# Altium footprint library Connector_PinHeader_1.27mm.PcbLib: 278 footprints (part 6 of 18)
Each footprint in its own frame and in the unit in brackets; x right, y up, seen from the top. Pads: shape width x height; smd on the part's side, far side on the other; paste and mask are expansions set on the pad; w line width, h text height; cw(c..) or ccw(c..) is an arc to the next point about the centre after c.
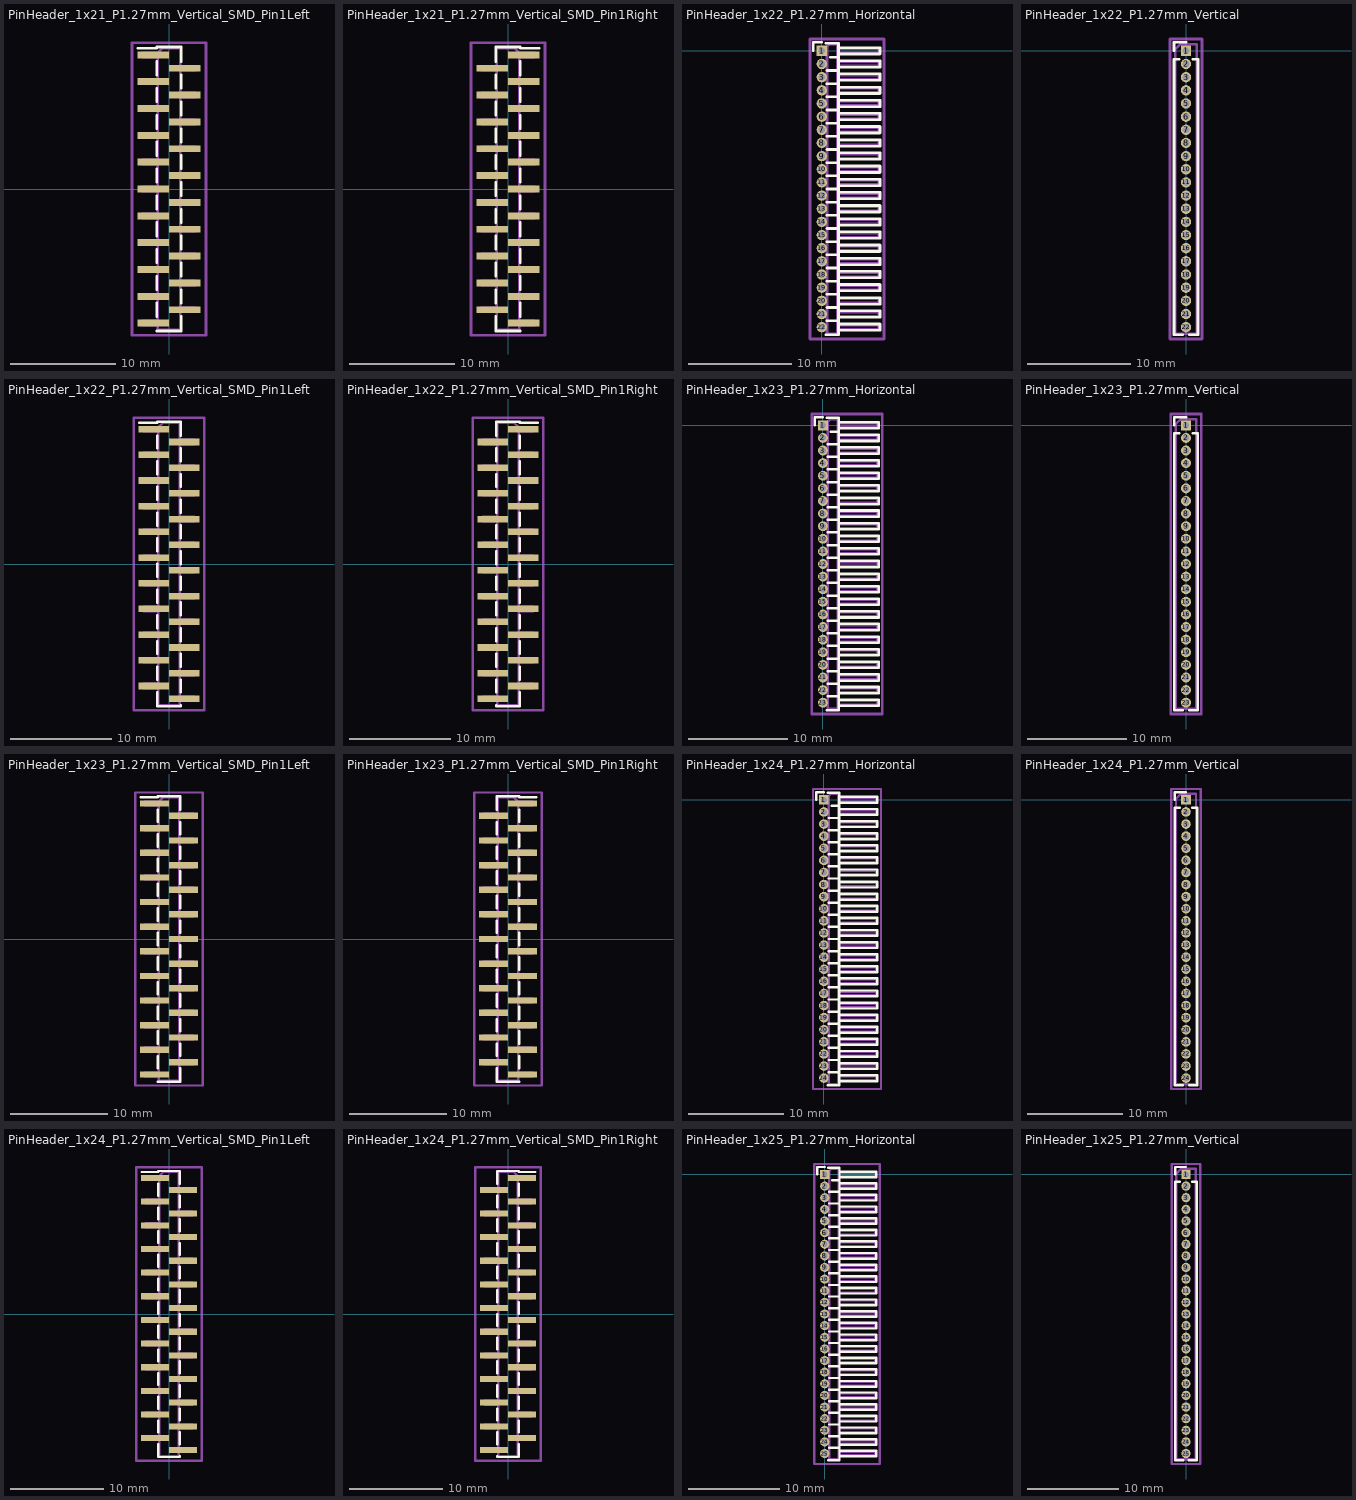
[diagram p5: the footprints below, top view; thin cyan lines are the x and y axes]

## PinHeader_1x21_P1.27mm_Vertical_SMD_Pin1Left [mm]
pads (21):
  rect 3x0.65 smd: 1(-1.5,12.7) 2(1.5,11.43) 3(-1.5,10.16) 4(1.5,8.89) 5(-1.5,7.62) 6(1.5,6.35) 7(-1.5,5.08) 8(1.5,3.81) 9(-1.5,2.54) 10(1.5,1.27) 11(-1.5,0) 12(1.5,-1.27) 13(-1.5,-2.54) 14(1.5,-3.81) 15(-1.5,-5.08) 16(1.5,-6.35) 17(-1.5,-7.62) 18(1.5,-8.89) 19(-1.5,-10.16) 20(1.5,-11.43) 21(-1.5,-12.7)
F.SilkS:
  lines w0.254: -2.94,13.335 -1.16,13.335 -1.16,13.445 1.16,13.445 ; -1.16,-13.445 1.16,-13.445 ; -1.16,-12.065 -1.16,-10.795 ; -1.16,-9.525 -1.16,-8.255 ; -1.16,-6.985 -1.16,-5.715 ; -1.16,-4.445 -1.16,-3.175 ; -1.16,-1.905 -1.16,-0.635 ; -1.16,0.635 -1.16,1.905 ; -1.16,3.175 -1.16,4.445 ; -1.16,5.715 -1.16,6.985 ; -1.16,8.255 -1.16,9.525 ; -1.16,10.795 -1.16,12.065 ; 1.16,-13.335 1.16,-13.445 ; 1.16,-12.065 1.16,-13.445 ; 1.16,-10.795 1.16,-9.525 ; 1.16,-8.255 1.16,-6.985 ; 1.16,-5.715 1.16,-4.445 ; 1.16,-3.175 1.16,-1.905 ; 1.16,-0.635 1.16,0.635 ; 1.16,1.905 1.16,3.175 ; 1.16,4.445 1.16,5.715 ; 1.16,6.985 1.16,8.255 ; 1.16,9.525 1.16,10.795 ; 1.16,12.065 1.16,13.335
Top Assembly:
  lines w0.254: -1.05,-12.9 -2.5,-12.9 -2.5,-12.5 -1.05,-12.5 ; -1.05,-10.36 -2.5,-10.36 -2.5,-9.96 -1.05,-9.96 ; -1.05,-7.82 -2.5,-7.82 -2.5,-7.42 -1.05,-7.42 ; -1.05,-5.28 -2.5,-5.28 -2.5,-4.88 -1.05,-4.88 ; -1.05,-2.74 -2.5,-2.74 -2.5,-2.34 -1.05,-2.34 ; -1.05,-0.2 -2.5,-0.2 -2.5,0.2 -1.05,0.2 ; -1.05,2.34 -2.5,2.34 -2.5,2.74 -1.05,2.74 ; -1.05,4.88 -2.5,4.88 -2.5,5.28 -1.05,5.28 ; -1.05,7.42 -2.5,7.42 -2.5,7.82 -1.05,7.82 ; -1.05,9.96 -2.5,9.96 -2.5,10.36 -1.05,10.36 ; -1.05,12.5 -2.5,12.5 -2.5,12.9 -1.05,12.9 ; 1.05,-11.63 2.5,-11.63 2.5,-11.23 1.05,-11.23 ; 1.05,-9.09 2.5,-9.09 2.5,-8.69 1.05,-8.69 ; 1.05,-6.55 2.5,-6.55 2.5,-6.15 1.05,-6.15 ; 1.05,-4.01 2.5,-4.01 2.5,-3.61 1.05,-3.61 ; 1.05,-1.47 2.5,-1.47 2.5,-1.07 1.05,-1.07 ; 1.05,1.07 2.5,1.07 2.5,1.47 1.05,1.47 ; 1.05,3.61 2.5,3.61 2.5,4.01 1.05,4.01 ; 1.05,6.15 2.5,6.15 2.5,6.55 1.05,6.55 ; 1.05,8.69 2.5,8.69 2.5,9.09 1.05,9.09 ; 1.05,11.23 2.5,11.23 2.5,11.63 1.05,11.63 ; -1.05,12.9 -1.05,-13.335 1.05,-13.335 1.05,13.335 -0.615,13.335 -1.05,12.9
  text "'.Designator'" at 0.84,-4.047 h1
Top Courtyard:
  lines w0.254: -3.5,-13.84 3.5,-13.84 3.5,13.84 -3.5,13.84 -3.5,-13.84
Top Designator:
  text ".Designator" at -7.618,-0.508 h1.52

## PinHeader_1x21_P1.27mm_Vertical_SMD_Pin1Right [mm]
pads (21):
  rect 3x0.65 smd: 1(1.5,12.7) 2(-1.5,11.43) 3(1.5,10.16) 4(-1.5,8.89) 5(1.5,7.62) 6(-1.5,6.35) 7(1.5,5.08) 8(-1.5,3.81) 9(1.5,2.54) 10(-1.5,1.27) 11(1.5,0) 12(-1.5,-1.27) 13(1.5,-2.54) 14(-1.5,-3.81) 15(1.5,-5.08) 16(-1.5,-6.35) 17(1.5,-7.62) 18(-1.5,-8.89) 19(1.5,-10.16) 20(-1.5,-11.43) 21(1.5,-12.7)
F.SilkS:
  lines w0.254: -1.16,-13.335 -1.16,-13.445 ; -1.16,-12.065 -1.16,-13.445 ; -1.16,-10.795 -1.16,-9.525 ; -1.16,-8.255 -1.16,-6.985 ; -1.16,-5.715 -1.16,-4.445 ; -1.16,-3.175 -1.16,-1.905 ; -1.16,-0.635 -1.16,0.635 ; -1.16,1.905 -1.16,3.175 ; -1.16,4.445 -1.16,5.715 ; -1.16,6.985 -1.16,8.255 ; -1.16,9.525 -1.16,10.795 ; -1.16,13.445 1.16,13.445 1.16,13.335 2.94,13.335 ; 1.16,-13.445 -1.16,-13.445 ; 1.16,-12.065 1.16,-10.795 ; 1.16,-9.525 1.16,-8.255 ; 1.16,-6.985 1.16,-5.715 ; 1.16,-4.445 1.16,-3.175 ; 1.16,-1.905 1.16,-0.635 ; 1.16,0.635 1.16,1.905 ; 1.16,3.175 1.16,4.445 ; 1.16,5.715 1.16,6.985 ; 1.16,8.255 1.16,9.525 ; 1.16,10.795 1.16,12.065 ; -1.16,12.065 -1.16,13.335 -1.16,12.065
Top Assembly:
  lines w0.254: -1.05,-11.63 -2.5,-11.63 -2.5,-11.23 -1.05,-11.23 ; -1.05,-9.09 -2.5,-9.09 -2.5,-8.69 -1.05,-8.69 ; -1.05,-6.55 -2.5,-6.55 -2.5,-6.15 -1.05,-6.15 ; -1.05,-4.01 -2.5,-4.01 -2.5,-3.61 -1.05,-3.61 ; -1.05,-1.47 -2.5,-1.47 -2.5,-1.07 -1.05,-1.07 ; -1.05,1.07 -2.5,1.07 -2.5,1.47 -1.05,1.47 ; -1.05,3.61 -2.5,3.61 -2.5,4.01 -1.05,4.01 ; -1.05,6.15 -2.5,6.15 -2.5,6.55 -1.05,6.55 ; -1.05,8.69 -2.5,8.69 -2.5,9.09 -1.05,9.09 ; -1.05,11.23 -2.5,11.23 -2.5,11.63 -1.05,11.63 ; 1.05,-12.9 2.5,-12.9 2.5,-12.5 1.05,-12.5 ; 1.05,-10.36 2.5,-10.36 2.5,-9.96 1.05,-9.96 ; 1.05,-7.82 2.5,-7.82 2.5,-7.42 1.05,-7.42 ; 1.05,-5.28 2.5,-5.28 2.5,-4.88 1.05,-4.88 ; 1.05,-2.74 2.5,-2.74 2.5,-2.34 1.05,-2.34 ; 1.05,-0.2 2.5,-0.2 2.5,0.2 1.05,0.2 ; 1.05,2.34 2.5,2.34 2.5,2.74 1.05,2.74 ; 1.05,4.88 2.5,4.88 2.5,5.28 1.05,5.28 ; 1.05,7.42 2.5,7.42 2.5,7.82 1.05,7.82 ; 1.05,9.96 2.5,9.96 2.5,10.36 1.05,10.36 ; 1.05,12.5 2.5,12.5 2.5,12.9 1.05,12.9 ; 1.05,12.9 1.05,-13.335 -1.05,-13.335 -1.05,13.335 0.615,13.335 1.05,12.9
  text "'.Designator'" at 0.84,-4.047 h1
Top Courtyard:
  lines w0.254: -3.5,-13.84 3.5,-13.84 3.5,13.84 -3.5,13.84 -3.5,-13.84
Top Designator:
  text ".Designator" at -7.618,-0.508 h1.52

## PinHeader_1x22_P1.27mm_Horizontal [mm]
pads (22):
  rect 1x1 hole 0.65: 1(0,0)
  round 1 hole 0.65: 2(0,-1.27) 3(0,-2.54) 4(0,-3.81) 5(0,-5.08) 6(0,-6.35) 7(0,-7.62) 8(0,-8.89) 9(0,-10.16) 10(0,-11.43) 11(0,-12.7) 12(0,-13.97) 13(0,-15.24) 14(0,-16.51) 15(0,-17.78) 16(0,-19.05) 17(0,-20.32) 18(0,-21.59) 19(0,-22.86) 20(0,-24.13) 21(0,-25.4) 22(0,-26.67)
F.SilkS:
  lines w0.254: -0.81,0 -0.81,0.81 0,0.81 ; 0.39,-27.415 1.61,-27.415 1.61,0.745 0.39,0.745 ; 0.503,-26.035 1.61,-26.035 ; 0.503,-24.765 1.61,-24.765 ; 0.503,-23.495 1.61,-23.495 ; 0.503,-22.225 1.61,-22.225 ; 0.503,-20.955 1.61,-20.955 ; 0.503,-19.685 1.61,-19.685 ; 0.503,-18.415 1.61,-18.415 ; 0.503,-17.145 1.61,-17.145 ; 0.503,-15.875 1.61,-15.875 ; 0.503,-14.605 1.61,-14.605 ; 0.503,-13.335 1.61,-13.335 ; 0.503,-12.065 1.61,-12.065 ; 0.503,-10.795 1.61,-10.795 ; 0.503,-9.525 1.61,-9.525 ; 0.503,-8.255 1.61,-8.255 ; 0.503,-6.985 1.61,-6.985 ; 0.503,-5.715 1.61,-5.715 ; 0.503,-4.445 1.61,-4.445 ; 0.503,-3.175 1.61,-3.175 ; 0.503,-1.905 1.61,-1.905 ; 0.81,-0.635 1.61,-0.635 ; 1.61,-26.98 5.61,-26.98 5.61,-26.36 1.61,-26.36 ; 1.61,-25.71 5.61,-25.71 5.61,-25.09 1.61,-25.09 ; 1.61,-24.44 5.61,-24.44 5.61,-23.82 1.61,-23.82 ; 1.61,-23.17 5.61,-23.17 5.61,-22.55 1.61,-22.55 ; 1.61,-21.9 5.61,-21.9 5.61,-21.28 1.61,-21.28 ; 1.61,-20.63 5.61,-20.63 5.61,-20.01 1.61,-20.01 ; 1.61,-19.36 5.61,-19.36 5.61,-18.74 1.61,-18.74 ; 1.61,-18.09 5.61,-18.09 5.61,-17.47 1.61,-17.47 ; 1.61,-16.82 5.61,-16.82 5.61,-16.2 1.61,-16.2 ; 1.61,-15.55 5.61,-15.55 5.61,-14.93 1.61,-14.93 ; 1.61,-14.28 5.61,-14.28 5.61,-13.66 1.61,-13.66 ; 1.61,-13.01 5.61,-13.01 5.61,-12.39 1.61,-12.39 ; 1.61,-11.74 5.61,-11.74 5.61,-11.12 1.61,-11.12 ; 1.61,-10.47 5.61,-10.47 5.61,-9.85 1.61,-9.85 ; 1.61,-9.2 5.61,-9.2 5.61,-8.58 1.61,-8.58 ; 1.61,-7.93 5.61,-7.93 5.61,-7.31 1.61,-7.31 ; 1.61,-6.66 5.61,-6.66 5.61,-6.04 1.61,-6.04 ; 1.61,-5.39 5.61,-5.39 5.61,-4.77 1.61,-4.77 ; 1.61,-4.12 5.61,-4.12 5.61,-3.5 1.61,-3.5 ; 1.61,-2.85 5.61,-2.85 5.61,-2.23 1.61,-2.23 ; 1.61,-1.58 5.61,-1.58 5.61,-0.96 1.61,-0.96 ; 1.61,-0.31 5.61,-0.31 5.61,0.31 1.61,0.31 1.61,-0.31
Top Assembly:
  lines w0.254: 0.5,-26.87 -0.2,-26.87 -0.2,-26.47 0.5,-26.47 ; 0.5,-25.6 -0.2,-25.6 -0.2,-25.2 0.5,-25.2 ; 0.5,-24.33 -0.2,-24.33 -0.2,-23.93 0.5,-23.93 ; 0.5,-23.06 -0.2,-23.06 -0.2,-22.66 0.5,-22.66 ; 0.5,-21.79 -0.2,-21.79 -0.2,-21.39 0.5,-21.39 ; 0.5,-20.52 -0.2,-20.52 -0.2,-20.12 0.5,-20.12 ; 0.5,-19.25 -0.2,-19.25 -0.2,-18.85 0.5,-18.85 ; 0.5,-17.98 -0.2,-17.98 -0.2,-17.58 0.5,-17.58 ; 0.5,-16.71 -0.2,-16.71 -0.2,-16.31 0.5,-16.31 ; 0.5,-15.44 -0.2,-15.44 -0.2,-15.04 0.5,-15.04 ; 0.5,-14.17 -0.2,-14.17 -0.2,-13.77 0.5,-13.77 ; 0.5,-12.9 -0.2,-12.9 -0.2,-12.5 0.5,-12.5 ; 0.5,-11.63 -0.2,-11.63 -0.2,-11.23 0.5,-11.23 ; 0.5,-10.36 -0.2,-10.36 -0.2,-9.96 0.5,-9.96 ; 0.5,-9.09 -0.2,-9.09 -0.2,-8.69 0.5,-8.69 ; 0.5,-7.82 -0.2,-7.82 -0.2,-7.42 0.5,-7.42 ; 0.5,-6.55 -0.2,-6.55 -0.2,-6.15 0.5,-6.15 ; 0.5,-5.28 -0.2,-5.28 -0.2,-4.88 0.5,-4.88 ; 0.5,-4.01 -0.2,-4.01 -0.2,-3.61 0.5,-3.61 ; 0.5,-2.74 -0.2,-2.74 -0.2,-2.34 0.5,-2.34 ; 0.5,-1.47 -0.2,-1.47 -0.2,-1.07 0.5,-1.07 ; 0.5,-0.2 -0.2,-0.2 -0.2,0.2 0.5,0.2 ; 1.5,-26.87 5.5,-26.87 5.5,-26.47 1.5,-26.47 ; 1.5,-25.6 5.5,-25.6 5.5,-25.2 1.5,-25.2 ; 1.5,-24.33 5.5,-24.33 5.5,-23.93 1.5,-23.93 ; 1.5,-23.06 5.5,-23.06 5.5,-22.66 1.5,-22.66 ; 1.5,-21.79 5.5,-21.79 5.5,-21.39 1.5,-21.39 ; 1.5,-20.52 5.5,-20.52 5.5,-20.12 1.5,-20.12 ; 1.5,-19.25 5.5,-19.25 5.5,-18.85 1.5,-18.85 ; 1.5,-17.98 5.5,-17.98 5.5,-17.58 1.5,-17.58 ; 1.5,-16.71 5.5,-16.71 5.5,-16.31 1.5,-16.31 ; 1.5,-15.44 5.5,-15.44 5.5,-15.04 1.5,-15.04 ; 1.5,-14.17 5.5,-14.17 5.5,-13.77 1.5,-13.77 ; 1.5,-12.9 5.5,-12.9 5.5,-12.5 1.5,-12.5 ; 1.5,-11.63 5.5,-11.63 5.5,-11.23 1.5,-11.23 ; 1.5,-10.36 5.5,-10.36 5.5,-9.96 1.5,-9.96 ; 1.5,-9.09 5.5,-9.09 5.5,-8.69 1.5,-8.69 ; 1.5,-7.82 5.5,-7.82 5.5,-7.42 1.5,-7.42 ; 1.5,-6.55 5.5,-6.55 5.5,-6.15 1.5,-6.15 ; 1.5,-5.28 5.5,-5.28 5.5,-4.88 1.5,-4.88 ; 1.5,-4.01 5.5,-4.01 5.5,-3.61 1.5,-3.61 ; 1.5,-2.74 5.5,-2.74 5.5,-2.34 1.5,-2.34 ; 1.5,-1.47 5.5,-1.47 5.5,-1.07 1.5,-1.07 ; 1.5,-0.2 5.5,-0.2 5.5,0.2 1.5,0.2 ; 0.5,-27.305 1.5,-27.305 1.5,0.635 0.75,0.635 0.5,0.385 0.5,-27.305
  text "'.Designator'" at 1.504,-15.763 h0.6
Top Courtyard:
  lines w0.254: -1.14,-27.81 6,-27.81 6,1.14 -1.14,1.14 -1.14,-27.81
Top Designator:
  text ".Designator" at -5.188,-13.843 h1.52

## PinHeader_1x22_P1.27mm_Vertical [mm]
pads (22):
  rect 1x1 hole 0.65: 1(0,0)
  round 1 hole 0.65: 2(0,-1.27) 3(0,-2.54) 4(0,-3.81) 5(0,-5.08) 6(0,-6.35) 7(0,-7.62) 8(0,-8.89) 9(0,-10.16) 10(0,-11.43) 11(0,-12.7) 12(0,-13.97) 13(0,-15.24) 14(0,-16.51) 15(0,-17.78) 16(0,-19.05) 17(0,-20.32) 18(0,-21.59) 19(0,-22.86) 20(0,-24.13) 21(0,-25.4) 22(0,-26.67)
F.SilkS:
  lines w0.254: -1.16,0 -1.16,0.81 0,0.81 ; -0.667,-0.81 -1.16,-0.81 -1.16,-27.415 -0.318,-27.415 ; 0.318,-27.415 1.16,-27.415 1.16,-0.81 0.667,-0.81
Top Assembly:
  lines w0.254: -1.05,-27.305 1.05,-27.305 1.05,0.635 -0.525,0.635 -1.05,0.11 -1.05,-27.305
  text "'.Designator'" at 0.84,-17.382 h1
Top Courtyard:
  lines w0.254: -1.55,-27.81 1.55,-27.81 1.55,1.14 -1.55,1.14 -1.55,-27.81
Top Designator:
  text ".Designator" at -7.618,-13.843 h1.52

## PinHeader_1x22_P1.27mm_Vertical_SMD_Pin1Left [mm]
pads (22):
  rect 3x0.65 smd: 1(-1.5,13.335) 2(1.5,12.065) 3(-1.5,10.795) 4(1.5,9.525) 5(-1.5,8.255) 6(1.5,6.985) 7(-1.5,5.715) 8(1.5,4.445) 9(-1.5,3.175) 10(1.5,1.905) 11(-1.5,0.635) 12(1.5,-0.635) 13(-1.5,-1.905) 14(1.5,-3.175) 15(-1.5,-4.445) 16(1.5,-5.715) 17(-1.5,-6.985) 18(1.5,-8.255) 19(-1.5,-9.525) 20(1.5,-10.795) 21(-1.5,-12.065) 22(1.5,-13.335)
F.SilkS:
  lines w0.254: -2.94,13.97 -1.16,13.97 -1.16,14.08 1.16,14.08 ; -1.16,-12.7 -1.16,-14.08 1.16,-14.08 1.16,-13.97 ; -1.16,-11.43 -1.16,-10.16 ; -1.16,-8.89 -1.16,-7.62 ; -1.16,-6.35 -1.16,-5.08 ; -1.16,-3.81 -1.16,-2.54 ; -1.16,-1.27 -1.16,0 ; -1.16,1.27 -1.16,2.54 ; -1.16,3.81 -1.16,5.08 ; -1.16,6.35 -1.16,7.62 ; -1.16,8.89 -1.16,10.16 ; -1.16,11.43 -1.16,12.7 ; 1.16,-12.7 1.16,-11.43 ; 1.16,-10.16 1.16,-8.89 ; 1.16,-7.62 1.16,-6.35 ; 1.16,-5.08 1.16,-3.81 ; 1.16,-2.54 1.16,-1.27 ; 1.16,0 1.16,1.27 ; 1.16,2.54 1.16,3.81 ; 1.16,5.08 1.16,6.35 ; 1.16,7.62 1.16,8.89 ; 1.16,10.16 1.16,11.43 ; 1.16,12.7 1.16,13.97
Top Assembly:
  lines w0.254: -1.05,-12.265 -2.5,-12.265 -2.5,-11.865 -1.05,-11.865 ; -1.05,-9.725 -2.5,-9.725 -2.5,-9.325 -1.05,-9.325 ; -1.05,-7.185 -2.5,-7.185 -2.5,-6.785 -1.05,-6.785 ; -1.05,-4.645 -2.5,-4.645 -2.5,-4.245 -1.05,-4.245 ; -1.05,-2.105 -2.5,-2.105 -2.5,-1.705 -1.05,-1.705 ; -1.05,0.435 -2.5,0.435 -2.5,0.835 -1.05,0.835 ; -1.05,2.975 -2.5,2.975 -2.5,3.375 -1.05,3.375 ; -1.05,5.515 -2.5,5.515 -2.5,5.915 -1.05,5.915 ; -1.05,8.055 -2.5,8.055 -2.5,8.455 -1.05,8.455 ; -1.05,10.595 -2.5,10.595 -2.5,10.995 -1.05,10.995 ; -1.05,13.135 -2.5,13.135 -2.5,13.535 -1.05,13.535 ; 1.05,-13.535 2.5,-13.535 2.5,-13.135 1.05,-13.135 ; 1.05,-10.995 2.5,-10.995 2.5,-10.595 1.05,-10.595 ; 1.05,-8.455 2.5,-8.455 2.5,-8.055 1.05,-8.055 ; 1.05,-5.915 2.5,-5.915 2.5,-5.515 1.05,-5.515 ; 1.05,-3.375 2.5,-3.375 2.5,-2.975 1.05,-2.975 ; 1.05,-0.835 2.5,-0.835 2.5,-0.435 1.05,-0.435 ; 1.05,1.705 2.5,1.705 2.5,2.105 1.05,2.105 ; 1.05,4.245 2.5,4.245 2.5,4.645 1.05,4.645 ; 1.05,6.785 2.5,6.785 2.5,7.185 1.05,7.185 ; 1.05,9.325 2.5,9.325 2.5,9.725 1.05,9.725 ; 1.05,11.865 2.5,11.865 2.5,12.265 1.05,12.265 ; -1.05,13.535 -1.05,-13.97 1.05,-13.97 1.05,13.97 -0.615,13.97 -1.05,13.535
  text "'.Designator'" at 0.84,-4.047 h1
Top Courtyard:
  lines w0.254: -3.5,-14.48 3.5,-14.48 3.5,14.48 -3.5,14.48 -3.5,-14.48
Top Designator:
  text ".Designator" at -7.618,-0.508 h1.52

## PinHeader_1x22_P1.27mm_Vertical_SMD_Pin1Right [mm]
pads (22):
  rect 3x0.65 smd: 1(1.5,13.335) 2(-1.5,12.065) 3(1.5,10.795) 4(-1.5,9.525) 5(1.5,8.255) 6(-1.5,6.985) 7(1.5,5.715) 8(-1.5,4.445) 9(1.5,3.175) 10(-1.5,1.905) 11(1.5,0.635) 12(-1.5,-0.635) 13(1.5,-1.905) 14(-1.5,-3.175) 15(1.5,-4.445) 16(-1.5,-5.715) 17(1.5,-6.985) 18(-1.5,-8.255) 19(1.5,-9.525) 20(-1.5,-10.795) 21(1.5,-12.065) 22(-1.5,-13.335)
F.SilkS:
  lines w0.254: -1.16,-13.97 -1.16,-14.08 1.16,-14.08 1.16,-12.7 ; -1.16,-12.7 -1.16,-11.43 ; -1.16,-10.16 -1.16,-8.89 ; -1.16,-7.62 -1.16,-6.35 ; -1.16,-5.08 -1.16,-3.81 ; -1.16,-2.54 -1.16,-1.27 ; -1.16,0 -1.16,1.27 ; -1.16,2.54 -1.16,3.81 ; -1.16,5.08 -1.16,6.35 ; -1.16,7.62 -1.16,8.89 ; -1.16,10.16 -1.16,11.43 ; -1.16,14.08 1.16,14.08 1.16,13.97 2.94,13.97 ; 1.16,-11.43 1.16,-10.16 ; 1.16,-8.89 1.16,-7.62 ; 1.16,-6.35 1.16,-5.08 ; 1.16,-3.81 1.16,-2.54 ; 1.16,-1.27 1.16,0 ; 1.16,1.27 1.16,2.54 ; 1.16,3.81 1.16,5.08 ; 1.16,6.35 1.16,7.62 ; 1.16,8.89 1.16,10.16 ; 1.16,11.43 1.16,12.7 ; -1.16,12.7 -1.16,13.97 -1.16,12.7
Top Assembly:
  lines w0.254: -1.05,-13.535 -2.5,-13.535 -2.5,-13.135 -1.05,-13.135 ; -1.05,-10.995 -2.5,-10.995 -2.5,-10.595 -1.05,-10.595 ; -1.05,-8.455 -2.5,-8.455 -2.5,-8.055 -1.05,-8.055 ; -1.05,-5.915 -2.5,-5.915 -2.5,-5.515 -1.05,-5.515 ; -1.05,-3.375 -2.5,-3.375 -2.5,-2.975 -1.05,-2.975 ; -1.05,-0.835 -2.5,-0.835 -2.5,-0.435 -1.05,-0.435 ; -1.05,1.705 -2.5,1.705 -2.5,2.105 -1.05,2.105 ; -1.05,4.245 -2.5,4.245 -2.5,4.645 -1.05,4.645 ; -1.05,6.785 -2.5,6.785 -2.5,7.185 -1.05,7.185 ; -1.05,9.325 -2.5,9.325 -2.5,9.725 -1.05,9.725 ; -1.05,11.865 -2.5,11.865 -2.5,12.265 -1.05,12.265 ; 1.05,-12.265 2.5,-12.265 2.5,-11.865 1.05,-11.865 ; 1.05,-9.725 2.5,-9.725 2.5,-9.325 1.05,-9.325 ; 1.05,-7.185 2.5,-7.185 2.5,-6.785 1.05,-6.785 ; 1.05,-4.645 2.5,-4.645 2.5,-4.245 1.05,-4.245 ; 1.05,-2.105 2.5,-2.105 2.5,-1.705 1.05,-1.705 ; 1.05,0.435 2.5,0.435 2.5,0.835 1.05,0.835 ; 1.05,2.975 2.5,2.975 2.5,3.375 1.05,3.375 ; 1.05,5.515 2.5,5.515 2.5,5.915 1.05,5.915 ; 1.05,8.055 2.5,8.055 2.5,8.455 1.05,8.455 ; 1.05,10.595 2.5,10.595 2.5,10.995 1.05,10.995 ; 1.05,13.135 2.5,13.135 2.5,13.535 1.05,13.535 ; 1.05,13.535 1.05,-13.97 -1.05,-13.97 -1.05,13.97 0.615,13.97 1.05,13.535
  text "'.Designator'" at 0.84,-4.047 h1
Top Courtyard:
  lines w0.254: -3.5,-14.48 3.5,-14.48 3.5,14.48 -3.5,14.48 -3.5,-14.48
Top Designator:
  text ".Designator" at -7.618,-0.508 h1.52

## PinHeader_1x23_P1.27mm_Horizontal [mm]
pads (23):
  rect 1x1 hole 0.65: 1(0,0)
  round 1 hole 0.65: 2(0,-1.27) 3(0,-2.54) 4(0,-3.81) 5(0,-5.08) 6(0,-6.35) 7(0,-7.62) 8(0,-8.89) 9(0,-10.16) 10(0,-11.43) 11(0,-12.7) 12(0,-13.97) 13(0,-15.24) 14(0,-16.51) 15(0,-17.78) 16(0,-19.05) 17(0,-20.32) 18(0,-21.59) 19(0,-22.86) 20(0,-24.13) 21(0,-25.4) 22(0,-26.67) 23(0,-27.94)
F.SilkS:
  lines w0.254: -0.81,0 -0.81,0.81 0,0.81 ; 0.39,-28.685 1.61,-28.685 1.61,0.745 0.39,0.745 ; 0.503,-27.305 1.61,-27.305 ; 0.503,-26.035 1.61,-26.035 ; 0.503,-24.765 1.61,-24.765 ; 0.503,-23.495 1.61,-23.495 ; 0.503,-22.225 1.61,-22.225 ; 0.503,-20.955 1.61,-20.955 ; 0.503,-19.685 1.61,-19.685 ; 0.503,-18.415 1.61,-18.415 ; 0.503,-17.145 1.61,-17.145 ; 0.503,-15.875 1.61,-15.875 ; 0.503,-14.605 1.61,-14.605 ; 0.503,-13.335 1.61,-13.335 ; 0.503,-12.065 1.61,-12.065 ; 0.503,-10.795 1.61,-10.795 ; 0.503,-9.525 1.61,-9.525 ; 0.503,-8.255 1.61,-8.255 ; 0.503,-6.985 1.61,-6.985 ; 0.503,-5.715 1.61,-5.715 ; 0.503,-4.445 1.61,-4.445 ; 0.503,-3.175 1.61,-3.175 ; 0.503,-1.905 1.61,-1.905 ; 0.81,-0.635 1.61,-0.635 ; 1.61,-28.25 5.61,-28.25 5.61,-27.63 1.61,-27.63 ; 1.61,-26.98 5.61,-26.98 5.61,-26.36 1.61,-26.36 ; 1.61,-25.71 5.61,-25.71 5.61,-25.09 1.61,-25.09 ; 1.61,-24.44 5.61,-24.44 5.61,-23.82 1.61,-23.82 ; 1.61,-23.17 5.61,-23.17 5.61,-22.55 1.61,-22.55 ; 1.61,-21.9 5.61,-21.9 5.61,-21.28 1.61,-21.28 ; 1.61,-20.63 5.61,-20.63 5.61,-20.01 1.61,-20.01 ; 1.61,-19.36 5.61,-19.36 5.61,-18.74 1.61,-18.74 ; 1.61,-18.09 5.61,-18.09 5.61,-17.47 1.61,-17.47 ; 1.61,-16.82 5.61,-16.82 5.61,-16.2 1.61,-16.2 ; 1.61,-15.55 5.61,-15.55 5.61,-14.93 1.61,-14.93 ; 1.61,-14.28 5.61,-14.28 5.61,-13.66 1.61,-13.66 ; 1.61,-13.01 5.61,-13.01 5.61,-12.39 1.61,-12.39 ; 1.61,-11.74 5.61,-11.74 5.61,-11.12 1.61,-11.12 ; 1.61,-10.47 5.61,-10.47 5.61,-9.85 1.61,-9.85 ; 1.61,-9.2 5.61,-9.2 5.61,-8.58 1.61,-8.58 ; 1.61,-7.93 5.61,-7.93 5.61,-7.31 1.61,-7.31 ; 1.61,-6.66 5.61,-6.66 5.61,-6.04 1.61,-6.04 ; 1.61,-5.39 5.61,-5.39 5.61,-4.77 1.61,-4.77 ; 1.61,-4.12 5.61,-4.12 5.61,-3.5 1.61,-3.5 ; 1.61,-2.85 5.61,-2.85 5.61,-2.23 1.61,-2.23 ; 1.61,-1.58 5.61,-1.58 5.61,-0.96 1.61,-0.96 ; 1.61,-0.31 5.61,-0.31 5.61,0.31 1.61,0.31 1.61,-0.31
Top Assembly:
  lines w0.254: 0.5,-28.14 -0.2,-28.14 -0.2,-27.74 0.5,-27.74 ; 0.5,-26.87 -0.2,-26.87 -0.2,-26.47 0.5,-26.47 ; 0.5,-25.6 -0.2,-25.6 -0.2,-25.2 0.5,-25.2 ; 0.5,-24.33 -0.2,-24.33 -0.2,-23.93 0.5,-23.93 ; 0.5,-23.06 -0.2,-23.06 -0.2,-22.66 0.5,-22.66 ; 0.5,-21.79 -0.2,-21.79 -0.2,-21.39 0.5,-21.39 ; 0.5,-20.52 -0.2,-20.52 -0.2,-20.12 0.5,-20.12 ; 0.5,-19.25 -0.2,-19.25 -0.2,-18.85 0.5,-18.85 ; 0.5,-17.98 -0.2,-17.98 -0.2,-17.58 0.5,-17.58 ; 0.5,-16.71 -0.2,-16.71 -0.2,-16.31 0.5,-16.31 ; 0.5,-15.44 -0.2,-15.44 -0.2,-15.04 0.5,-15.04 ; 0.5,-14.17 -0.2,-14.17 -0.2,-13.77 0.5,-13.77 ; 0.5,-12.9 -0.2,-12.9 -0.2,-12.5 0.5,-12.5 ; 0.5,-11.63 -0.2,-11.63 -0.2,-11.23 0.5,-11.23 ; 0.5,-10.36 -0.2,-10.36 -0.2,-9.96 0.5,-9.96 ; 0.5,-9.09 -0.2,-9.09 -0.2,-8.69 0.5,-8.69 ; 0.5,-7.82 -0.2,-7.82 -0.2,-7.42 0.5,-7.42 ; 0.5,-6.55 -0.2,-6.55 -0.2,-6.15 0.5,-6.15 ; 0.5,-5.28 -0.2,-5.28 -0.2,-4.88 0.5,-4.88 ; 0.5,-4.01 -0.2,-4.01 -0.2,-3.61 0.5,-3.61 ; 0.5,-2.74 -0.2,-2.74 -0.2,-2.34 0.5,-2.34 ; 0.5,-1.47 -0.2,-1.47 -0.2,-1.07 0.5,-1.07 ; 0.5,-0.2 -0.2,-0.2 -0.2,0.2 0.5,0.2 ; 1.5,-28.14 5.5,-28.14 5.5,-27.74 1.5,-27.74 ; 1.5,-26.87 5.5,-26.87 5.5,-26.47 1.5,-26.47 ; 1.5,-25.6 5.5,-25.6 5.5,-25.2 1.5,-25.2 ; 1.5,-24.33 5.5,-24.33 5.5,-23.93 1.5,-23.93 ; 1.5,-23.06 5.5,-23.06 5.5,-22.66 1.5,-22.66 ; 1.5,-21.79 5.5,-21.79 5.5,-21.39 1.5,-21.39 ; 1.5,-20.52 5.5,-20.52 5.5,-20.12 1.5,-20.12 ; 1.5,-19.25 5.5,-19.25 5.5,-18.85 1.5,-18.85 ; 1.5,-17.98 5.5,-17.98 5.5,-17.58 1.5,-17.58 ; 1.5,-16.71 5.5,-16.71 5.5,-16.31 1.5,-16.31 ; 1.5,-15.44 5.5,-15.44 5.5,-15.04 1.5,-15.04 ; 1.5,-14.17 5.5,-14.17 5.5,-13.77 1.5,-13.77 ; 1.5,-12.9 5.5,-12.9 5.5,-12.5 1.5,-12.5 ; 1.5,-11.63 5.5,-11.63 5.5,-11.23 1.5,-11.23 ; 1.5,-10.36 5.5,-10.36 5.5,-9.96 1.5,-9.96 ; 1.5,-9.09 5.5,-9.09 5.5,-8.69 1.5,-8.69 ; 1.5,-7.82 5.5,-7.82 5.5,-7.42 1.5,-7.42 ; 1.5,-6.55 5.5,-6.55 5.5,-6.15 1.5,-6.15 ; 1.5,-5.28 5.5,-5.28 5.5,-4.88 1.5,-4.88 ; 1.5,-4.01 5.5,-4.01 5.5,-3.61 1.5,-3.61 ; 1.5,-2.74 5.5,-2.74 5.5,-2.34 1.5,-2.34 ; 1.5,-1.47 5.5,-1.47 5.5,-1.07 1.5,-1.07 ; 1.5,-0.2 5.5,-0.2 5.5,0.2 1.5,0.2 ; 0.5,-28.575 1.5,-28.575 1.5,0.635 0.75,0.635 0.5,0.385 0.5,-28.575
  text "'.Designator'" at 1.504,-16.398 h0.6
Top Courtyard:
  lines w0.254: -1.14,-29.08 6,-29.08 6,1.14 -1.14,1.14 -1.14,-29.08
Top Designator:
  text ".Designator" at -5.188,-14.478 h1.52

## PinHeader_1x23_P1.27mm_Vertical [mm]
pads (23):
  rect 1x1 hole 0.65: 1(0,0)
  round 1 hole 0.65: 2(0,-1.27) 3(0,-2.54) 4(0,-3.81) 5(0,-5.08) 6(0,-6.35) 7(0,-7.62) 8(0,-8.89) 9(0,-10.16) 10(0,-11.43) 11(0,-12.7) 12(0,-13.97) 13(0,-15.24) 14(0,-16.51) 15(0,-17.78) 16(0,-19.05) 17(0,-20.32) 18(0,-21.59) 19(0,-22.86) 20(0,-24.13) 21(0,-25.4) 22(0,-26.67) 23(0,-27.94)
F.SilkS:
  lines w0.254: -1.16,0 -1.16,0.81 0,0.81 ; -0.667,-0.81 -1.16,-0.81 -1.16,-28.685 -0.318,-28.685 ; 0.318,-28.685 1.16,-28.685 1.16,-0.81 0.667,-0.81
Top Assembly:
  lines w0.254: -1.05,-28.575 1.05,-28.575 1.05,0.635 -0.525,0.635 -1.05,0.11 -1.05,-28.575
  text "'.Designator'" at 0.84,-18.017 h1
Top Courtyard:
  lines w0.254: -1.55,-29.08 1.55,-29.08 1.55,1.14 -1.55,1.14 -1.55,-29.08
Top Designator:
  text ".Designator" at -7.618,-14.478 h1.52

## PinHeader_1x23_P1.27mm_Vertical_SMD_Pin1Left [mm]
pads (23):
  rect 3x0.65 smd: 1(-1.5,13.97) 2(1.5,12.7) 3(-1.5,11.43) 4(1.5,10.16) 5(-1.5,8.89) 6(1.5,7.62) 7(-1.5,6.35) 8(1.5,5.08) 9(-1.5,3.81) 10(1.5,2.54) 11(-1.5,1.27) 12(1.5,0) 13(-1.5,-1.27) 14(1.5,-2.54) 15(-1.5,-3.81) 16(1.5,-5.08) 17(-1.5,-6.35) 18(1.5,-7.62) 19(-1.5,-8.89) 20(1.5,-10.16) 21(-1.5,-11.43) 22(1.5,-12.7) 23(-1.5,-13.97)
F.SilkS:
  lines w0.254: -2.94,14.605 -1.16,14.605 -1.16,14.715 1.16,14.715 ; -1.16,-14.715 1.16,-14.715 ; -1.16,-13.335 -1.16,-12.065 ; -1.16,-10.795 -1.16,-9.525 ; -1.16,-8.255 -1.16,-6.985 ; -1.16,-5.715 -1.16,-4.445 ; -1.16,-3.175 -1.16,-1.905 ; -1.16,-0.635 -1.16,0.635 ; -1.16,1.905 -1.16,3.175 ; -1.16,4.445 -1.16,5.715 ; -1.16,6.985 -1.16,8.255 ; -1.16,9.525 -1.16,10.795 ; -1.16,12.065 -1.16,13.335 ; 1.16,-14.605 1.16,-14.715 ; 1.16,-13.335 1.16,-14.715 ; 1.16,-12.065 1.16,-10.795 ; 1.16,-9.525 1.16,-8.255 ; 1.16,-6.985 1.16,-5.715 ; 1.16,-4.445 1.16,-3.175 ; 1.16,-1.905 1.16,-0.635 ; 1.16,0.635 1.16,1.905 ; 1.16,3.175 1.16,4.445 ; 1.16,5.715 1.16,6.985 ; 1.16,8.255 1.16,9.525 ; 1.16,10.795 1.16,12.065 ; 1.16,13.335 1.16,14.605
Top Assembly:
  lines w0.254: -1.05,-14.17 -2.5,-14.17 -2.5,-13.77 -1.05,-13.77 ; -1.05,-11.63 -2.5,-11.63 -2.5,-11.23 -1.05,-11.23 ; -1.05,-9.09 -2.5,-9.09 -2.5,-8.69 -1.05,-8.69 ; -1.05,-6.55 -2.5,-6.55 -2.5,-6.15 -1.05,-6.15 ; -1.05,-4.01 -2.5,-4.01 -2.5,-3.61 -1.05,-3.61 ; -1.05,-1.47 -2.5,-1.47 -2.5,-1.07 -1.05,-1.07 ; -1.05,1.07 -2.5,1.07 -2.5,1.47 -1.05,1.47 ; -1.05,3.61 -2.5,3.61 -2.5,4.01 -1.05,4.01 ; -1.05,6.15 -2.5,6.15 -2.5,6.55 -1.05,6.55 ; -1.05,8.69 -2.5,8.69 -2.5,9.09 -1.05,9.09 ; -1.05,11.23 -2.5,11.23 -2.5,11.63 -1.05,11.63 ; -1.05,13.77 -2.5,13.77 -2.5,14.17 -1.05,14.17 ; 1.05,-12.9 2.5,-12.9 2.5,-12.5 1.05,-12.5 ; 1.05,-10.36 2.5,-10.36 2.5,-9.96 1.05,-9.96 ; 1.05,-7.82 2.5,-7.82 2.5,-7.42 1.05,-7.42 ; 1.05,-5.28 2.5,-5.28 2.5,-4.88 1.05,-4.88 ; 1.05,-2.74 2.5,-2.74 2.5,-2.34 1.05,-2.34 ; 1.05,-0.2 2.5,-0.2 2.5,0.2 1.05,0.2 ; 1.05,2.34 2.5,2.34 2.5,2.74 1.05,2.74 ; 1.05,4.88 2.5,4.88 2.5,5.28 1.05,5.28 ; 1.05,7.42 2.5,7.42 2.5,7.82 1.05,7.82 ; 1.05,9.96 2.5,9.96 2.5,10.36 1.05,10.36 ; 1.05,12.5 2.5,12.5 2.5,12.9 1.05,12.9 ; -1.05,14.17 -1.05,-14.605 1.05,-14.605 1.05,14.605 -0.615,14.605 -1.05,14.17
  text "'.Designator'" at 0.84,-4.047 h1
Top Courtyard:
  lines w0.254: -3.5,-15.11 3.5,-15.11 3.5,15.11 -3.5,15.11 -3.5,-15.11
Top Designator:
  text ".Designator" at -7.618,-0.508 h1.52

## PinHeader_1x23_P1.27mm_Vertical_SMD_Pin1Right [mm]
pads (23):
  rect 3x0.65 smd: 1(1.5,13.97) 2(-1.5,12.7) 3(1.5,11.43) 4(-1.5,10.16) 5(1.5,8.89) 6(-1.5,7.62) 7(1.5,6.35) 8(-1.5,5.08) 9(1.5,3.81) 10(-1.5,2.54) 11(1.5,1.27) 12(-1.5,0) 13(1.5,-1.27) 14(-1.5,-2.54) 15(1.5,-3.81) 16(-1.5,-5.08) 17(1.5,-6.35) 18(-1.5,-7.62) 19(1.5,-8.89) 20(-1.5,-10.16) 21(1.5,-11.43) 22(-1.5,-12.7) 23(1.5,-13.97)
F.SilkS:
  lines w0.254: -1.16,-14.605 -1.16,-14.715 ; -1.16,-13.335 -1.16,-14.715 ; -1.16,-12.065 -1.16,-10.795 ; -1.16,-9.525 -1.16,-8.255 ; -1.16,-6.985 -1.16,-5.715 ; -1.16,-4.445 -1.16,-3.175 ; -1.16,-1.905 -1.16,-0.635 ; -1.16,0.635 -1.16,1.905 ; -1.16,3.175 -1.16,4.445 ; -1.16,5.715 -1.16,6.985 ; -1.16,8.255 -1.16,9.525 ; -1.16,10.795 -1.16,12.065 ; -1.16,14.715 1.16,14.715 1.16,14.605 2.94,14.605 ; 1.16,-14.715 -1.16,-14.715 ; 1.16,-13.335 1.16,-12.065 ; 1.16,-10.795 1.16,-9.525 ; 1.16,-8.255 1.16,-6.985 ; 1.16,-5.715 1.16,-4.445 ; 1.16,-3.175 1.16,-1.905 ; 1.16,-0.635 1.16,0.635 ; 1.16,1.905 1.16,3.175 ; 1.16,4.445 1.16,5.715 ; 1.16,6.985 1.16,8.255 ; 1.16,9.525 1.16,10.795 ; 1.16,12.065 1.16,13.335 ; -1.16,13.335 -1.16,14.605 -1.16,13.335
Top Assembly:
  lines w0.254: -1.05,-12.9 -2.5,-12.9 -2.5,-12.5 -1.05,-12.5 ; -1.05,-10.36 -2.5,-10.36 -2.5,-9.96 -1.05,-9.96 ; -1.05,-7.82 -2.5,-7.82 -2.5,-7.42 -1.05,-7.42 ; -1.05,-5.28 -2.5,-5.28 -2.5,-4.88 -1.05,-4.88 ; -1.05,-2.74 -2.5,-2.74 -2.5,-2.34 -1.05,-2.34 ; -1.05,-0.2 -2.5,-0.2 -2.5,0.2 -1.05,0.2 ; -1.05,2.34 -2.5,2.34 -2.5,2.74 -1.05,2.74 ; -1.05,4.88 -2.5,4.88 -2.5,5.28 -1.05,5.28 ; -1.05,7.42 -2.5,7.42 -2.5,7.82 -1.05,7.82 ; -1.05,9.96 -2.5,9.96 -2.5,10.36 -1.05,10.36 ; -1.05,12.5 -2.5,12.5 -2.5,12.9 -1.05,12.9 ; 1.05,-14.17 2.5,-14.17 2.5,-13.77 1.05,-13.77 ; 1.05,-11.63 2.5,-11.63 2.5,-11.23 1.05,-11.23 ; 1.05,-9.09 2.5,-9.09 2.5,-8.69 1.05,-8.69 ; 1.05,-6.55 2.5,-6.55 2.5,-6.15 1.05,-6.15 ; 1.05,-4.01 2.5,-4.01 2.5,-3.61 1.05,-3.61 ; 1.05,-1.47 2.5,-1.47 2.5,-1.07 1.05,-1.07 ; 1.05,1.07 2.5,1.07 2.5,1.47 1.05,1.47 ; 1.05,3.61 2.5,3.61 2.5,4.01 1.05,4.01 ; 1.05,6.15 2.5,6.15 2.5,6.55 1.05,6.55 ; 1.05,8.69 2.5,8.69 2.5,9.09 1.05,9.09 ; 1.05,11.23 2.5,11.23 2.5,11.63 1.05,11.63 ; 1.05,13.77 2.5,13.77 2.5,14.17 1.05,14.17 ; 1.05,14.17 1.05,-14.605 -1.05,-14.605 -1.05,14.605 0.615,14.605 1.05,14.17
  text "'.Designator'" at 0.84,-4.047 h1
Top Courtyard:
  lines w0.254: -3.5,-15.11 3.5,-15.11 3.5,15.11 -3.5,15.11 -3.5,-15.11
Top Designator:
  text ".Designator" at -7.618,-0.508 h1.52

## PinHeader_1x24_P1.27mm_Horizontal [mm]
pads (24):
  rect 1x1 hole 0.65: 1(0,0)
  round 1 hole 0.65: 2(0,-1.27) 3(0,-2.54) 4(0,-3.81) 5(0,-5.08) 6(0,-6.35) 7(0,-7.62) 8(0,-8.89) 9(0,-10.16) 10(0,-11.43) 11(0,-12.7) 12(0,-13.97) 13(0,-15.24) 14(0,-16.51) 15(0,-17.78) 16(0,-19.05) 17(0,-20.32) 18(0,-21.59) 19(0,-22.86) 20(0,-24.13) 21(0,-25.4) 22(0,-26.67) 23(0,-27.94) 24(0,-29.21)
F.SilkS:
  lines w0.254: -0.81,0 -0.81,0.81 0,0.81 ; 0.39,-29.955 1.61,-29.955 1.61,0.745 0.39,0.745 ; 0.503,-28.575 1.61,-28.575 ; 0.503,-27.305 1.61,-27.305 ; 0.503,-26.035 1.61,-26.035 ; 0.503,-24.765 1.61,-24.765 ; 0.503,-23.495 1.61,-23.495 ; 0.503,-22.225 1.61,-22.225 ; 0.503,-20.955 1.61,-20.955 ; 0.503,-19.685 1.61,-19.685 ; 0.503,-18.415 1.61,-18.415 ; 0.503,-17.145 1.61,-17.145 ; 0.503,-15.875 1.61,-15.875 ; 0.503,-14.605 1.61,-14.605 ; 0.503,-13.335 1.61,-13.335 ; 0.503,-12.065 1.61,-12.065 ; 0.503,-10.795 1.61,-10.795 ; 0.503,-9.525 1.61,-9.525 ; 0.503,-8.255 1.61,-8.255 ; 0.503,-6.985 1.61,-6.985 ; 0.503,-5.715 1.61,-5.715 ; 0.503,-4.445 1.61,-4.445 ; 0.503,-3.175 1.61,-3.175 ; 0.503,-1.905 1.61,-1.905 ; 0.81,-0.635 1.61,-0.635 ; 1.61,-29.52 5.61,-29.52 5.61,-28.9 1.61,-28.9 ; 1.61,-28.25 5.61,-28.25 5.61,-27.63 1.61,-27.63 ; 1.61,-26.98 5.61,-26.98 5.61,-26.36 1.61,-26.36 ; 1.61,-25.71 5.61,-25.71 5.61,-25.09 1.61,-25.09 ; 1.61,-24.44 5.61,-24.44 5.61,-23.82 1.61,-23.82 ; 1.61,-23.17 5.61,-23.17 5.61,-22.55 1.61,-22.55 ; 1.61,-21.9 5.61,-21.9 5.61,-21.28 1.61,-21.28 ; 1.61,-20.63 5.61,-20.63 5.61,-20.01 1.61,-20.01 ; 1.61,-19.36 5.61,-19.36 5.61,-18.74 1.61,-18.74 ; 1.61,-18.09 5.61,-18.09 5.61,-17.47 1.61,-17.47 ; 1.61,-16.82 5.61,-16.82 5.61,-16.2 1.61,-16.2 ; 1.61,-15.55 5.61,-15.55 5.61,-14.93 1.61,-14.93 ; 1.61,-14.28 5.61,-14.28 5.61,-13.66 1.61,-13.66 ; 1.61,-13.01 5.61,-13.01 5.61,-12.39 1.61,-12.39 ; 1.61,-11.74 5.61,-11.74 5.61,-11.12 1.61,-11.12 ; 1.61,-10.47 5.61,-10.47 5.61,-9.85 1.61,-9.85 ; 1.61,-9.2 5.61,-9.2 5.61,-8.58 1.61,-8.58 ; 1.61,-7.93 5.61,-7.93 5.61,-7.31 1.61,-7.31 ; 1.61,-6.66 5.61,-6.66 5.61,-6.04 1.61,-6.04 ; 1.61,-5.39 5.61,-5.39 5.61,-4.77 1.61,-4.77 ; 1.61,-4.12 5.61,-4.12 5.61,-3.5 1.61,-3.5 ; 1.61,-2.85 5.61,-2.85 5.61,-2.23 1.61,-2.23 ; 1.61,-1.58 5.61,-1.58 5.61,-0.96 1.61,-0.96 ; 1.61,-0.31 5.61,-0.31 5.61,0.31 1.61,0.31 1.61,-0.31
Top Assembly:
  lines w0.254: 0.5,-29.41 -0.2,-29.41 -0.2,-29.01 0.5,-29.01 ; 0.5,-28.14 -0.2,-28.14 -0.2,-27.74 0.5,-27.74 ; 0.5,-26.87 -0.2,-26.87 -0.2,-26.47 0.5,-26.47 ; 0.5,-25.6 -0.2,-25.6 -0.2,-25.2 0.5,-25.2 ; 0.5,-24.33 -0.2,-24.33 -0.2,-23.93 0.5,-23.93 ; 0.5,-23.06 -0.2,-23.06 -0.2,-22.66 0.5,-22.66 ; 0.5,-21.79 -0.2,-21.79 -0.2,-21.39 0.5,-21.39 ; 0.5,-20.52 -0.2,-20.52 -0.2,-20.12 0.5,-20.12 ; 0.5,-19.25 -0.2,-19.25 -0.2,-18.85 0.5,-18.85 ; 0.5,-17.98 -0.2,-17.98 -0.2,-17.58 0.5,-17.58 ; 0.5,-16.71 -0.2,-16.71 -0.2,-16.31 0.5,-16.31 ; 0.5,-15.44 -0.2,-15.44 -0.2,-15.04 0.5,-15.04 ; 0.5,-14.17 -0.2,-14.17 -0.2,-13.77 0.5,-13.77 ; 0.5,-12.9 -0.2,-12.9 -0.2,-12.5 0.5,-12.5 ; 0.5,-11.63 -0.2,-11.63 -0.2,-11.23 0.5,-11.23 ; 0.5,-10.36 -0.2,-10.36 -0.2,-9.96 0.5,-9.96 ; 0.5,-9.09 -0.2,-9.09 -0.2,-8.69 0.5,-8.69 ; 0.5,-7.82 -0.2,-7.82 -0.2,-7.42 0.5,-7.42 ; 0.5,-6.55 -0.2,-6.55 -0.2,-6.15 0.5,-6.15 ; 0.5,-5.28 -0.2,-5.28 -0.2,-4.88 0.5,-4.88 ; 0.5,-4.01 -0.2,-4.01 -0.2,-3.61 0.5,-3.61 ; 0.5,-2.74 -0.2,-2.74 -0.2,-2.34 0.5,-2.34 ; 0.5,-1.47 -0.2,-1.47 -0.2,-1.07 0.5,-1.07 ; 0.5,-0.2 -0.2,-0.2 -0.2,0.2 0.5,0.2 ; 1.5,-29.41 5.5,-29.41 5.5,-29.01 1.5,-29.01 ; 1.5,-28.14 5.5,-28.14 5.5,-27.74 1.5,-27.74 ; 1.5,-26.87 5.5,-26.87 5.5,-26.47 1.5,-26.47 ; 1.5,-25.6 5.5,-25.6 5.5,-25.2 1.5,-25.2 ; 1.5,-24.33 5.5,-24.33 5.5,-23.93 1.5,-23.93 ; 1.5,-23.06 5.5,-23.06 5.5,-22.66 1.5,-22.66 ; 1.5,-21.79 5.5,-21.79 5.5,-21.39 1.5,-21.39 ; 1.5,-20.52 5.5,-20.52 5.5,-20.12 1.5,-20.12 ; 1.5,-19.25 5.5,-19.25 5.5,-18.85 1.5,-18.85 ; 1.5,-17.98 5.5,-17.98 5.5,-17.58 1.5,-17.58 ; 1.5,-16.71 5.5,-16.71 5.5,-16.31 1.5,-16.31 ; 1.5,-15.44 5.5,-15.44 5.5,-15.04 1.5,-15.04 ; 1.5,-14.17 5.5,-14.17 5.5,-13.77 1.5,-13.77 ; 1.5,-12.9 5.5,-12.9 5.5,-12.5 1.5,-12.5 ; 1.5,-11.63 5.5,-11.63 5.5,-11.23 1.5,-11.23 ; 1.5,-10.36 5.5,-10.36 5.5,-9.96 1.5,-9.96 ; 1.5,-9.09 5.5,-9.09 5.5,-8.69 1.5,-8.69 ; 1.5,-7.82 5.5,-7.82 5.5,-7.42 1.5,-7.42 ; 1.5,-6.55 5.5,-6.55 5.5,-6.15 1.5,-6.15 ; 1.5,-5.28 5.5,-5.28 5.5,-4.88 1.5,-4.88 ; 1.5,-4.01 5.5,-4.01 5.5,-3.61 1.5,-3.61 ; 1.5,-2.74 5.5,-2.74 5.5,-2.34 1.5,-2.34 ; 1.5,-1.47 5.5,-1.47 5.5,-1.07 1.5,-1.07 ; 1.5,-0.2 5.5,-0.2 5.5,0.2 1.5,0.2 ; 0.5,-29.845 1.5,-29.845 1.5,0.635 0.75,0.635 0.5,0.385 0.5,-29.845
  text "'.Designator'" at 1.504,-17.033 h0.6
Top Courtyard:
  lines w0.254: -1.14,-30.35 6,-30.35 6,1.14 -1.14,1.14 -1.14,-30.35
Top Designator:
  text ".Designator" at -5.188,-15.113 h1.52

## PinHeader_1x24_P1.27mm_Vertical [mm]
pads (24):
  rect 1x1 hole 0.65: 1(0,0)
  round 1 hole 0.65: 2(0,-1.27) 3(0,-2.54) 4(0,-3.81) 5(0,-5.08) 6(0,-6.35) 7(0,-7.62) 8(0,-8.89) 9(0,-10.16) 10(0,-11.43) 11(0,-12.7) 12(0,-13.97) 13(0,-15.24) 14(0,-16.51) 15(0,-17.78) 16(0,-19.05) 17(0,-20.32) 18(0,-21.59) 19(0,-22.86) 20(0,-24.13) 21(0,-25.4) 22(0,-26.67) 23(0,-27.94) 24(0,-29.21)
F.SilkS:
  lines w0.254: -1.16,0 -1.16,0.81 0,0.81 ; -0.667,-0.81 -1.16,-0.81 -1.16,-29.955 -0.318,-29.955 ; 0.318,-29.955 1.16,-29.955 1.16,-0.81 0.667,-0.81
Top Assembly:
  lines w0.254: -1.05,-29.845 1.05,-29.845 1.05,0.635 -0.525,0.635 -1.05,0.11 -1.05,-29.845
  text "'.Designator'" at 0.84,-18.652 h1
Top Courtyard:
  lines w0.254: -1.55,-30.35 1.55,-30.35 1.55,1.14 -1.55,1.14 -1.55,-30.35
Top Designator:
  text ".Designator" at -7.618,-15.113 h1.52

## PinHeader_1x24_P1.27mm_Vertical_SMD_Pin1Left [mm]
pads (24):
  rect 3x0.65 smd: 1(-1.5,14.605) 2(1.5,13.335) 3(-1.5,12.065) 4(1.5,10.795) 5(-1.5,9.525) 6(1.5,8.255) 7(-1.5,6.985) 8(1.5,5.715) 9(-1.5,4.445) 10(1.5,3.175) 11(-1.5,1.905) 12(1.5,0.635) 13(-1.5,-0.635) 14(1.5,-1.905) 15(-1.5,-3.175) 16(1.5,-4.445) 17(-1.5,-5.715) 18(1.5,-6.985) 19(-1.5,-8.255) 20(1.5,-9.525) 21(-1.5,-10.795) 22(1.5,-12.065) 23(-1.5,-13.335) 24(1.5,-14.605)
F.SilkS:
  lines w0.254: -2.94,15.24 -1.16,15.24 -1.16,15.35 1.16,15.35 ; -1.16,-13.97 -1.16,-15.35 1.16,-15.35 1.16,-15.24 ; -1.16,-12.7 -1.16,-11.43 ; -1.16,-10.16 -1.16,-8.89 ; -1.16,-7.62 -1.16,-6.35 ; -1.16,-5.08 -1.16,-3.81 ; -1.16,-2.54 -1.16,-1.27 ; -1.16,0 -1.16,1.27 ; -1.16,2.54 -1.16,3.81 ; -1.16,5.08 -1.16,6.35 ; -1.16,7.62 -1.16,8.89 ; -1.16,10.16 -1.16,11.43 ; -1.16,12.7 -1.16,13.97 ; 1.16,-13.97 1.16,-12.7 ; 1.16,-11.43 1.16,-10.16 ; 1.16,-8.89 1.16,-7.62 ; 1.16,-6.35 1.16,-5.08 ; 1.16,-3.81 1.16,-2.54 ; 1.16,-1.27 1.16,0 ; 1.16,1.27 1.16,2.54 ; 1.16,3.81 1.16,5.08 ; 1.16,6.35 1.16,7.62 ; 1.16,8.89 1.16,10.16 ; 1.16,11.43 1.16,12.7 ; 1.16,13.97 1.16,15.24
Top Assembly:
  lines w0.254: -1.05,-13.535 -2.5,-13.535 -2.5,-13.135 -1.05,-13.135 ; -1.05,-10.995 -2.5,-10.995 -2.5,-10.595 -1.05,-10.595 ; -1.05,-8.455 -2.5,-8.455 -2.5,-8.055 -1.05,-8.055 ; -1.05,-5.915 -2.5,-5.915 -2.5,-5.515 -1.05,-5.515 ; -1.05,-3.375 -2.5,-3.375 -2.5,-2.975 -1.05,-2.975 ; -1.05,-0.835 -2.5,-0.835 -2.5,-0.435 -1.05,-0.435 ; -1.05,1.705 -2.5,1.705 -2.5,2.105 -1.05,2.105 ; -1.05,4.245 -2.5,4.245 -2.5,4.645 -1.05,4.645 ; -1.05,6.785 -2.5,6.785 -2.5,7.185 -1.05,7.185 ; -1.05,9.325 -2.5,9.325 -2.5,9.725 -1.05,9.725 ; -1.05,11.865 -2.5,11.865 -2.5,12.265 -1.05,12.265 ; -1.05,14.405 -2.5,14.405 -2.5,14.805 -1.05,14.805 ; 1.05,-14.805 2.5,-14.805 2.5,-14.405 1.05,-14.405 ; 1.05,-12.265 2.5,-12.265 2.5,-11.865 1.05,-11.865 ; 1.05,-9.725 2.5,-9.725 2.5,-9.325 1.05,-9.325 ; 1.05,-7.185 2.5,-7.185 2.5,-6.785 1.05,-6.785 ; 1.05,-4.645 2.5,-4.645 2.5,-4.245 1.05,-4.245 ; 1.05,-2.105 2.5,-2.105 2.5,-1.705 1.05,-1.705 ; 1.05,0.435 2.5,0.435 2.5,0.835 1.05,0.835 ; 1.05,2.975 2.5,2.975 2.5,3.375 1.05,3.375 ; 1.05,5.515 2.5,5.515 2.5,5.915 1.05,5.915 ; 1.05,8.055 2.5,8.055 2.5,8.455 1.05,8.455 ; 1.05,10.595 2.5,10.595 2.5,10.995 1.05,10.995 ; 1.05,13.135 2.5,13.135 2.5,13.535 1.05,13.535 ; -1.05,14.805 -1.05,-15.24 1.05,-15.24 1.05,15.24 -0.615,15.24 -1.05,14.805
  text "'.Designator'" at 0.84,-4.047 h1
Top Courtyard:
  lines w0.254: -3.5,-15.75 3.5,-15.75 3.5,15.75 -3.5,15.75 -3.5,-15.75
Top Designator:
  text ".Designator" at -7.618,-0.508 h1.52

## PinHeader_1x24_P1.27mm_Vertical_SMD_Pin1Right [mm]
pads (24):
  rect 3x0.65 smd: 1(1.5,14.605) 2(-1.5,13.335) 3(1.5,12.065) 4(-1.5,10.795) 5(1.5,9.525) 6(-1.5,8.255) 7(1.5,6.985) 8(-1.5,5.715) 9(1.5,4.445) 10(-1.5,3.175) 11(1.5,1.905) 12(-1.5,0.635) 13(1.5,-0.635) 14(-1.5,-1.905) 15(1.5,-3.175) 16(-1.5,-4.445) 17(1.5,-5.715) 18(-1.5,-6.985) 19(1.5,-8.255) 20(-1.5,-9.525) 21(1.5,-10.795) 22(-1.5,-12.065) 23(1.5,-13.335) 24(-1.5,-14.605)
F.SilkS:
  lines w0.254: -1.16,-15.24 -1.16,-15.35 1.16,-15.35 1.16,-13.97 ; -1.16,-13.97 -1.16,-12.7 ; -1.16,-11.43 -1.16,-10.16 ; -1.16,-8.89 -1.16,-7.62 ; -1.16,-6.35 -1.16,-5.08 ; -1.16,-3.81 -1.16,-2.54 ; -1.16,-1.27 -1.16,0 ; -1.16,1.27 -1.16,2.54 ; -1.16,3.81 -1.16,5.08 ; -1.16,6.35 -1.16,7.62 ; -1.16,8.89 -1.16,10.16 ; -1.16,11.43 -1.16,12.7 ; -1.16,15.35 1.16,15.35 1.16,15.24 2.94,15.24 ; 1.16,-12.7 1.16,-11.43 ; 1.16,-10.16 1.16,-8.89 ; 1.16,-7.62 1.16,-6.35 ; 1.16,-5.08 1.16,-3.81 ; 1.16,-2.54 1.16,-1.27 ; 1.16,0 1.16,1.27 ; 1.16,2.54 1.16,3.81 ; 1.16,5.08 1.16,6.35 ; 1.16,7.62 1.16,8.89 ; 1.16,10.16 1.16,11.43 ; 1.16,12.7 1.16,13.97 ; -1.16,13.97 -1.16,15.24 -1.16,13.97
Top Assembly:
  lines w0.254: -1.05,-14.805 -2.5,-14.805 -2.5,-14.405 -1.05,-14.405 ; -1.05,-12.265 -2.5,-12.265 -2.5,-11.865 -1.05,-11.865 ; -1.05,-9.725 -2.5,-9.725 -2.5,-9.325 -1.05,-9.325 ; -1.05,-7.185 -2.5,-7.185 -2.5,-6.785 -1.05,-6.785 ; -1.05,-4.645 -2.5,-4.645 -2.5,-4.245 -1.05,-4.245 ; -1.05,-2.105 -2.5,-2.105 -2.5,-1.705 -1.05,-1.705 ; -1.05,0.435 -2.5,0.435 -2.5,0.835 -1.05,0.835 ; -1.05,2.975 -2.5,2.975 -2.5,3.375 -1.05,3.375 ; -1.05,5.515 -2.5,5.515 -2.5,5.915 -1.05,5.915 ; -1.05,8.055 -2.5,8.055 -2.5,8.455 -1.05,8.455 ; -1.05,10.595 -2.5,10.595 -2.5,10.995 -1.05,10.995 ; -1.05,13.135 -2.5,13.135 -2.5,13.535 -1.05,13.535 ; 1.05,-13.535 2.5,-13.535 2.5,-13.135 1.05,-13.135 ; 1.05,-10.995 2.5,-10.995 2.5,-10.595 1.05,-10.595 ; 1.05,-8.455 2.5,-8.455 2.5,-8.055 1.05,-8.055 ; 1.05,-5.915 2.5,-5.915 2.5,-5.515 1.05,-5.515 ; 1.05,-3.375 2.5,-3.375 2.5,-2.975 1.05,-2.975 ; 1.05,-0.835 2.5,-0.835 2.5,-0.435 1.05,-0.435 ; 1.05,1.705 2.5,1.705 2.5,2.105 1.05,2.105 ; 1.05,4.245 2.5,4.245 2.5,4.645 1.05,4.645 ; 1.05,6.785 2.5,6.785 2.5,7.185 1.05,7.185 ; 1.05,9.325 2.5,9.325 2.5,9.725 1.05,9.725 ; 1.05,11.865 2.5,11.865 2.5,12.265 1.05,12.265 ; 1.05,14.405 2.5,14.405 2.5,14.805 1.05,14.805 ; 1.05,14.805 1.05,-15.24 -1.05,-15.24 -1.05,15.24 0.615,15.24 1.05,14.805
  text "'.Designator'" at 0.84,-4.047 h1
Top Courtyard:
  lines w0.254: -3.5,-15.75 3.5,-15.75 3.5,15.75 -3.5,15.75 -3.5,-15.75
Top Designator:
  text ".Designator" at -7.618,-0.508 h1.52

## PinHeader_1x25_P1.27mm_Horizontal [mm]
pads (25):
  rect 1x1 hole 0.65: 1(0,0)
  round 1 hole 0.65: 2(0,-1.27) 3(0,-2.54) 4(0,-3.81) 5(0,-5.08) 6(0,-6.35) 7(0,-7.62) 8(0,-8.89) 9(0,-10.16) 10(0,-11.43) 11(0,-12.7) 12(0,-13.97) 13(0,-15.24) 14(0,-16.51) 15(0,-17.78) 16(0,-19.05) 17(0,-20.32) 18(0,-21.59) 19(0,-22.86) 20(0,-24.13) 21(0,-25.4) 22(0,-26.67) 23(0,-27.94) 24(0,-29.21) 25(0,-30.48)
F.SilkS:
  lines w0.254: -0.81,0 -0.81,0.81 0,0.81 ; 0.39,-31.225 1.61,-31.225 1.61,0.745 0.39,0.745 ; 0.503,-29.845 1.61,-29.845 ; 0.503,-28.575 1.61,-28.575 ; 0.503,-27.305 1.61,-27.305 ; 0.503,-26.035 1.61,-26.035 ; 0.503,-24.765 1.61,-24.765 ; 0.503,-23.495 1.61,-23.495 ; 0.503,-22.225 1.61,-22.225 ; 0.503,-20.955 1.61,-20.955 ; 0.503,-19.685 1.61,-19.685 ; 0.503,-18.415 1.61,-18.415 ; 0.503,-17.145 1.61,-17.145 ; 0.503,-15.875 1.61,-15.875 ; 0.503,-14.605 1.61,-14.605 ; 0.503,-13.335 1.61,-13.335 ; 0.503,-12.065 1.61,-12.065 ; 0.503,-10.795 1.61,-10.795 ; 0.503,-9.525 1.61,-9.525 ; 0.503,-8.255 1.61,-8.255 ; 0.503,-6.985 1.61,-6.985 ; 0.503,-5.715 1.61,-5.715 ; 0.503,-4.445 1.61,-4.445 ; 0.503,-3.175 1.61,-3.175 ; 0.503,-1.905 1.61,-1.905 ; 0.81,-0.635 1.61,-0.635 ; 1.61,-30.79 5.61,-30.79 5.61,-30.17 1.61,-30.17 ; 1.61,-29.52 5.61,-29.52 5.61,-28.9 1.61,-28.9 ; 1.61,-28.25 5.61,-28.25 5.61,-27.63 1.61,-27.63 ; 1.61,-26.98 5.61,-26.98 5.61,-26.36 1.61,-26.36 ; 1.61,-25.71 5.61,-25.71 5.61,-25.09 1.61,-25.09 ; 1.61,-24.44 5.61,-24.44 5.61,-23.82 1.61,-23.82 ; 1.61,-23.17 5.61,-23.17 5.61,-22.55 1.61,-22.55 ; 1.61,-21.9 5.61,-21.9 5.61,-21.28 1.61,-21.28 ; 1.61,-20.63 5.61,-20.63 5.61,-20.01 1.61,-20.01 ; 1.61,-19.36 5.61,-19.36 5.61,-18.74 1.61,-18.74 ; 1.61,-18.09 5.61,-18.09 5.61,-17.47 1.61,-17.47 ; 1.61,-16.82 5.61,-16.82 5.61,-16.2 1.61,-16.2 ; 1.61,-15.55 5.61,-15.55 5.61,-14.93 1.61,-14.93 ; 1.61,-14.28 5.61,-14.28 5.61,-13.66 1.61,-13.66 ; 1.61,-13.01 5.61,-13.01 5.61,-12.39 1.61,-12.39 ; 1.61,-11.74 5.61,-11.74 5.61,-11.12 1.61,-11.12 ; 1.61,-10.47 5.61,-10.47 5.61,-9.85 1.61,-9.85 ; 1.61,-9.2 5.61,-9.2 5.61,-8.58 1.61,-8.58 ; 1.61,-7.93 5.61,-7.93 5.61,-7.31 1.61,-7.31 ; 1.61,-6.66 5.61,-6.66 5.61,-6.04 1.61,-6.04 ; 1.61,-5.39 5.61,-5.39 5.61,-4.77 1.61,-4.77 ; 1.61,-4.12 5.61,-4.12 5.61,-3.5 1.61,-3.5 ; 1.61,-2.85 5.61,-2.85 5.61,-2.23 1.61,-2.23 ; 1.61,-1.58 5.61,-1.58 5.61,-0.96 1.61,-0.96 ; 1.61,-0.31 5.61,-0.31 5.61,0.31 1.61,0.31 1.61,-0.31
Top Assembly:
  drawing of 155 lines, arcs and shapes, not listed
  text "'.Designator'" at 1.504,-17.668 h0.6
Top Courtyard:
  lines w0.254: -1.14,-31.62 6,-31.62 6,1.14 -1.14,1.14 -1.14,-31.62
Top Designator:
  text ".Designator" at -5.188,-15.748 h1.52

## PinHeader_1x25_P1.27mm_Vertical [mm]
pads (25):
  rect 1x1 hole 0.65: 1(0,0)
  round 1 hole 0.65: 2(0,-1.27) 3(0,-2.54) 4(0,-3.81) 5(0,-5.08) 6(0,-6.35) 7(0,-7.62) 8(0,-8.89) 9(0,-10.16) 10(0,-11.43) 11(0,-12.7) 12(0,-13.97) 13(0,-15.24) 14(0,-16.51) 15(0,-17.78) 16(0,-19.05) 17(0,-20.32) 18(0,-21.59) 19(0,-22.86) 20(0,-24.13) 21(0,-25.4) 22(0,-26.67) 23(0,-27.94) 24(0,-29.21) 25(0,-30.48)
F.SilkS:
  lines w0.254: -1.16,0 -1.16,0.81 0,0.81 ; -0.667,-0.81 -1.16,-0.81 -1.16,-31.225 -0.318,-31.225 ; 0.318,-31.225 1.16,-31.225 1.16,-0.81 0.667,-0.81
Top Assembly:
  lines w0.254: -1.05,-31.115 1.05,-31.115 1.05,0.635 -0.525,0.635 -1.05,0.11 -1.05,-31.115
  text "'.Designator'" at 0.84,-19.287 h1
Top Courtyard:
  lines w0.254: -1.55,-31.62 1.55,-31.62 1.55,1.14 -1.55,1.14 -1.55,-31.62
Top Designator:
  text ".Designator" at -7.618,-15.748 h1.52